# Altium schematic symbol library 3V3 1.5A LDO.SchLib: 1 symbol
Pins are listed as number, name and electrical type; pins without a type are passive.

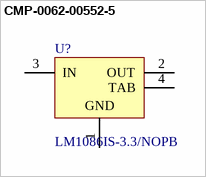
[diagram p0: symbol CMP-0062-00552-5]

## CMP-0062-00552-5
designator U?, comment LM1086IS-3.3/NOPB
1.5A Low Dropout Positive Regulators, 3-pin TO-263, Pb-Free; Manufacturer: Texas Instruments; PowerWise: N; CompType: LDO IC; PackageTopMarking: NSUZXYTTE#*LM1086*IS-3.3; High-Reliability: Y; PackageReference: KTT0003B; PartNumber: LM1086IS-3.3/NOPB; PackageDescription: TO-263, Molded, .400 x .390 x .180in, 3 Lead, .1in Pitch, Surface Mount; ComponentLink1URL: http://www.ti.com/general/docs/lit/getliterature.tsp?genericPartNumber=LM1086&fileType=pdf; RoHS: Y; Code_JEDEC: MO-169-AA; ComponentLink1Description: Datasheet URL; PinCount: 3
footprint KTT0003B_M (D2-PAK, 3-Leads, Body 10.41x8.89mm, Pitch 2.54mm, IPC Low Density)
footprint KTT0003B_N (D2-PAK, 3-Leads, Body 10.41x8.89mm, Pitch 2.54mm, IPC Medium Density)
footprint KTT0003B_L (D2-PAK, 3-Leads, Body 10.41x8.89mm, Pitch 2.54mm, IPC High Density)
pins: 1 GND (power), 2 OUT (power), 3 IN (power), 4 TAB (power)